# Altium footprint library HC49S.PcbLib: 1 footprints
Each footprint in its own frame and in the unit in brackets; x right, y up, seen from the top. Pads: shape width x height; smd on the part's side, far side on the other; paste and mask are expansions set on the pad; w line width, h text height; cw(c..) or ccw(c..) is an arc to the next point about the centre after c.
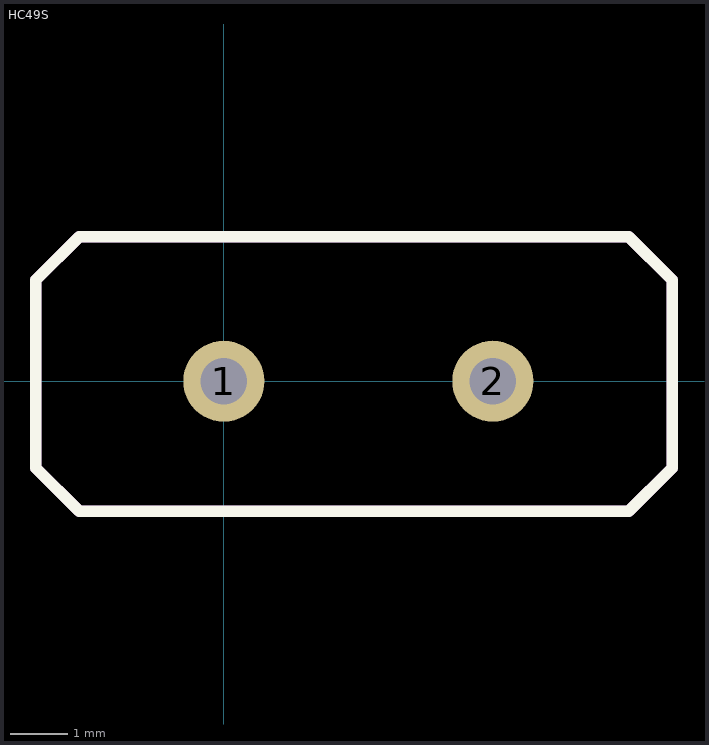
[diagram p0: the footprint, top view; thin cyan lines are the x and y axes]

## HC49S [mm]
pads (2):
  round 1.4 hole 0.8: 1(0,0) 2(4.65,0)
Top Overlay:
  lines w0.2: -3.25,-1.5 -3.25,1.75 -2.5,2.5 7,2.5 7.75,1.75 7.75,-1.5 7,-2.25 -2.5,-2.25 -3.25,-1.5
TopAssy:
  lines w0.2: -3.25,-1.5 -2.5,-2.25 7,-2.25 7.75,-1.5 7.75,1.75 7,2.5 -2.5,2.5 -3.25,1.75 -3.25,-1.5
3D body "User Library-HC-49.step": height 3.5, standoff -3, extent -3.1,-2.2 7.7,2.3